# Altium footprint library AMT.PcbLib: 1 footprints
Each footprint in its own frame and in the unit in brackets; x right, y up, seen from the top. Pads: shape width x height; smd on the part's side, far side on the other; paste and mask are expansions set on the pad; w line width, h text height; cw(c..) or ccw(c..) is an arc to the next point about the centre after c.
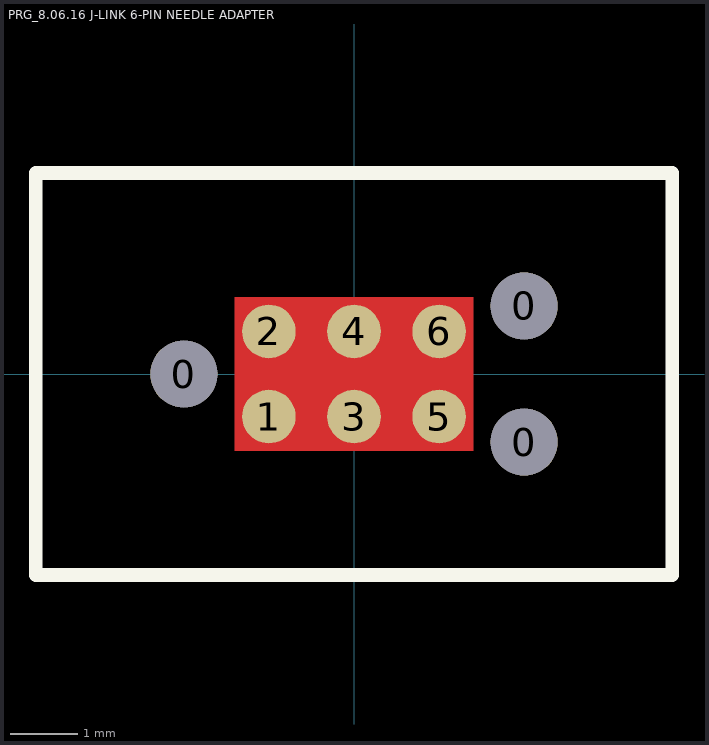
[diagram p0: the footprint, top view; thin cyan lines are the x and y axes]

## PRG_8.06.16 J-LINK 6-PIN NEEDLE ADAPTER [mm]
height 3.2
pads (9):
  round 1 hole 1 unplated: 0(-2.54,0) 0(2.54,1.016) 0(2.54,-1.016)
  round 0.8 smd: 1(-1.27,-0.635) 2(-1.27,0.635) 3(0,-0.635) 4(0,0.635) 5(1.27,-0.635) 6(1.27,0.635)
Top Layer:
  pour cut-out: -1.778,-1.143 -1.778,1.143 1.778,1.143 1.778,-1.143
Top Overlay:
  lines w0.203: -4.75,-3 4.75,-3 4.75,3 -4.75,3 -4.75,-3
Mechanical 1:
  text "'.Designator'" at -1.143,-0.635 h2.54
Mechanical 15:
  lines w0.127: -4.75,-3 -4.75,3 4.75,3 4.75,-3 -4.75,-3